# Altium footprint library CAPC200X125X110L50N.PcbLib: 1 footprints
Each footprint in its own frame and in the unit in brackets; x right, y up, seen from the top. Pads: shape width x height; smd on the part's side, far side on the other; paste and mask are expansions set on the pad; w line width, h text height; cw(c..) or ccw(c..) is an arc to the next point about the centre after c.
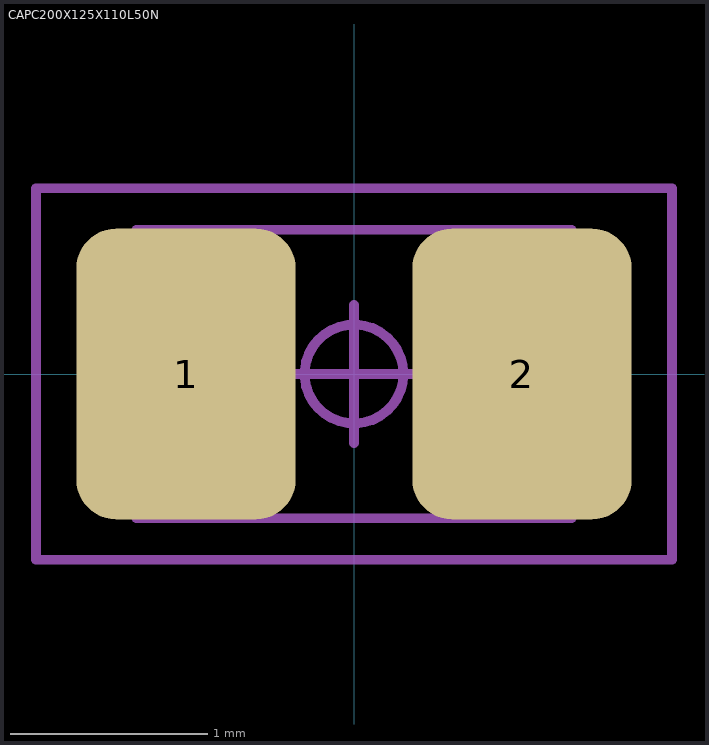
[diagram p0: the footprint, top view; thin cyan lines are the x and y axes]

## CAPC200X125X110L50N [mm] "Capacitor, Chip; 2.00 mm L X 1.25 mm W X 1.10 mm H body"
height 1.1
pads (2):
  rrect36% 1.11x1.47 smd mask+0.05: 1(-0.85,0) 2(0.85,0)
Mechanical 11:
  lines w0.05: -1.1,-0.73 -1.1,0.73 1.1,0.73 1.1,-0.73 -1.1,-0.73
Mechanical 15:
  circle w0.05: c0,0 r0.25
  lines w0.05: -0.35,0 0.35,0 ; 0,-0.35 0,0.35 ; -1.61,-0.94 -1.61,0.94 1.61,0.94 1.61,-0.94 -1.61,-0.94
3D body "CAPC200X125X110L50.STEP": height 1.1, standoff 0, extent -1.1,-0.725 1.1,0.725